# Altium footprint library PcbLib1.PcbLib: 17 footprints (part 2 of 2)
Each footprint in its own frame and in the unit in brackets; x right, y up, seen from the top. Pads: shape width x height; smd on the part's side, far side on the other; paste and mask are expansions set on the pad; w line width, h text height; cw(c..) or ccw(c..) is an arc to the next point about the centre after c.
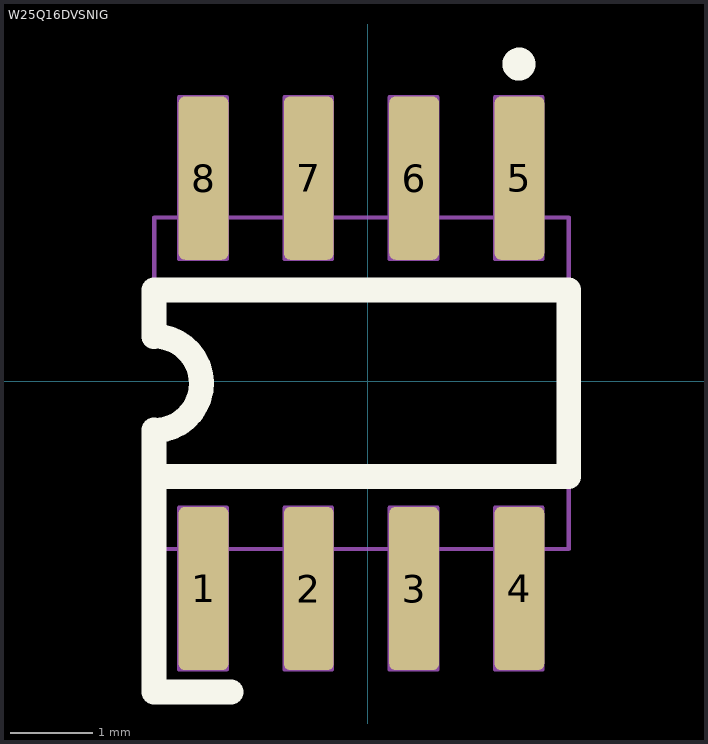
[diagram p1: the footprint, top view; thin cyan lines are the x and y axes]

## W25Q16DVSNIG [mm]
pads (8):
  rrect25% 0.6x1.97 smd: 1(-1.98,-2.5) 2(-0.71,-2.5) 3(0.56,-2.5) 4(1.83,-2.5) 5(1.83,2.45) 6(0.56,2.45) 7(-0.71,2.45) 8(-1.98,2.45)
Top Overlay:
  circle w0.2: c1.825,3.825 r0.1
  lines w0.3: -2.575,-0.588 -2.575,-1.15 ; -2.575,0.537 -2.575,1.1 2.425,1.1 2.425,-1.15 -2.575,-1.15 ; -2.575,0.545 cw(c-2.575,-0.025) -2.55,-0.595 ; -1.65,-3.75 -2.575,-3.75 -2.575,-1.15
Mechanical 2:
  lines w0.05: -2.575,-0.595 -2.575,-1.025 -2.575,-2.025 2.425,-2.025 2.425,1.975 -2.575,1.975 -2.575,0.975 -2.575,0.545 cw(c-2.575,-0.025) -2.55,-0.595 ; -2.275,-3.475 -1.7,-3.475 -1.7,-1.525 -2.275,-1.525 -2.275,-3.475 ; -2.275,1.475 -1.7,1.475 -1.7,3.425 -2.275,3.425 -2.275,1.475 ; -1.005,-3.475 -0.43,-3.475 -0.43,-1.525 -1.005,-1.525 -1.005,-3.475 ; -1.005,1.475 -0.43,1.475 -0.43,3.425 -1.005,3.425 -1.005,1.475 ; 0.265,-3.475 0.84,-3.475 0.84,-1.525 0.265,-1.525 0.265,-3.475 ; 0.265,1.475 0.84,1.475 0.84,3.425 0.265,3.425 0.265,1.475 ; 1.535,-3.475 2.11,-3.475 2.11,-1.525 1.535,-1.525 1.535,-3.475 ; 1.535,1.475 2.11,1.475 2.11,3.425 1.535,3.425 1.535,1.475
3D body "step_temp.STEP": height 1.75, standoff 0, extent -2.5,-3.025 2.35,2.975